# Altium footprint library VAR-Buzzer-10.PcbLib: 1 footprints
Each footprint in its own frame and in the unit in brackets; x right, y up, seen from the top. Pads: shape width x height; smd on the part's side, far side on the other; paste and mask are expansions set on the pad; w line width, h text height; cw(c..) or ccw(c..) is an arc to the next point about the centre after c.
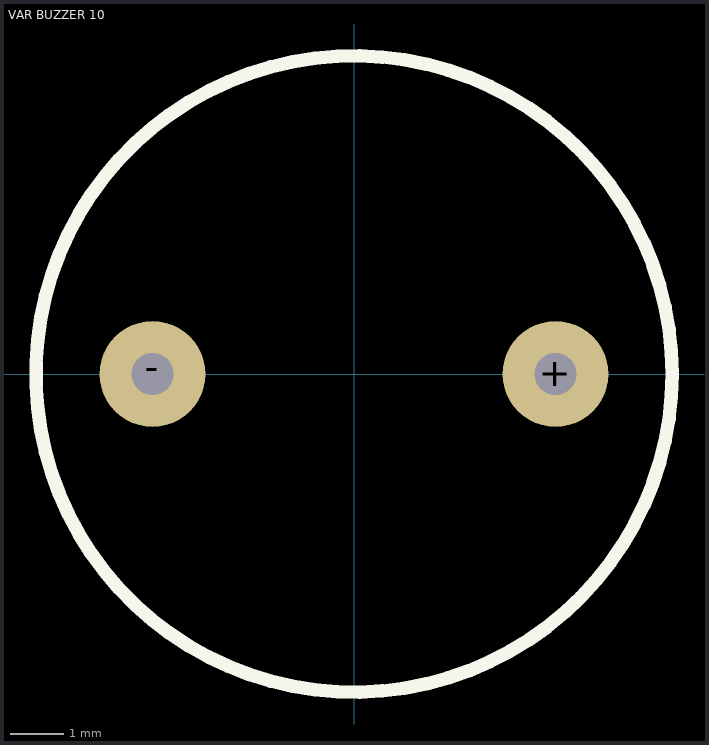
[diagram p0: the footprint, top view; thin cyan lines are the x and y axes]

## VAR BUZZER 10 [mm] "BUZZER CON OSCILADOR DE 10MM"
pads (2):
  round 2 hole 0.8: +(3.8,0) -(-3.8,0)
Top Overlay:
  circle w0.254: c0,0 r6
3D body "VAR-Buzzer-10.step": height 9.51, standoff -2.34, extent -5.99,-6 6.01,6